# Altium footprint library IC_QFP.PcbLib: 10 footprints (part 1 of 5)
Each footprint in its own frame and in the unit in brackets; x right, y up, seen from the top. Pads: shape width x height; smd on the part's side, far side on the other; paste and mask are expansions set on the pad; w line width, h text height; cw(c..) or ccw(c..) is an arc to the next point about the centre after c.
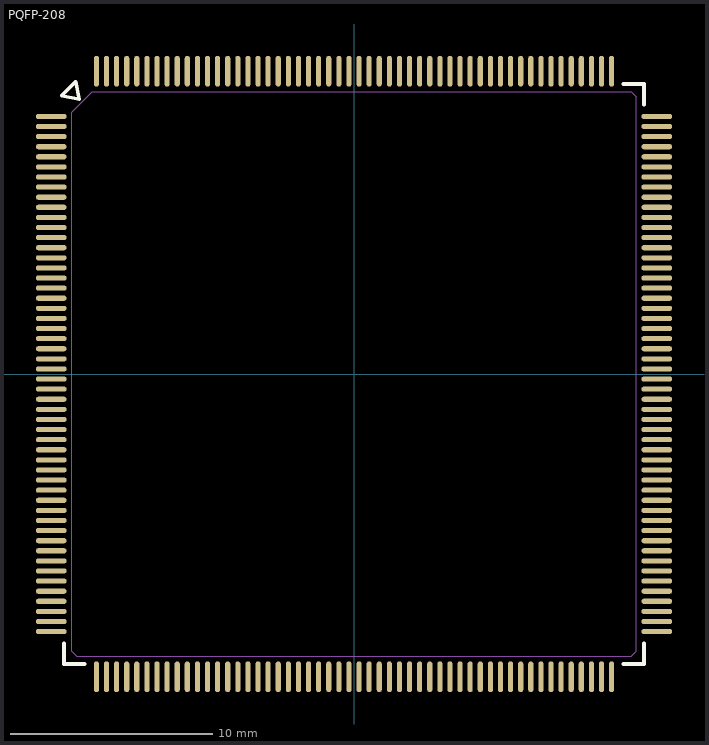
[diagram p0: the footprint, top view; thin cyan lines are the x and y axes]

## PQFP-208 [mil]
pads (208):
  oval 60x10 smd: 1(-590,501.97) 2(-590,482.28) 3(-590,462.6) 4(-590,442.91) 5(-590,423.23) 6(-590,403.54) 7(-590,383.86) 8(-590,364.17) 9(-590,344.49) 10(-590,324.8) 11(-590,305.12) 12(-590,285.43) 13(-590,265.75) 14(-590,246.06) 15(-590,226.38) 16(-590,206.69) 17(-590,187.01) 18(-590,167.32) 19(-590,147.64) 20(-590,127.95) 21(-590,108.27) 22(-590,88.58) 23(-590,68.9) 24(-590,49.21) 25(-590,29.53) 26(-590,9.84) 27(-590,-9.84) 28(-590,-29.53) 29(-590,-49.21) 30(-590,-68.9) 31(-590,-88.58) 32(-590,-108.27) 33(-590,-127.95) 34(-590,-147.64) 35(-590,-167.32) 36(-590,-187.01) 37(-590,-206.69) 38(-590,-226.38) 39(-590,-246.06) 40(-590,-265.75) 41(-590,-285.43) 42(-590,-305.12) 43(-590,-324.8) 44(-590,-344.49) 45(-590,-364.17) 46(-590,-383.86) 47(-590,-403.54) 48(-590,-423.23) 49(-590,-442.91) 50(-590,-462.6) 51(-590,-482.28) 52(-590,-501.97) 105(590,-501.97) 106(590,-482.28) 107(590,-462.6) 108(590,-442.91) 109(590,-423.23) 110(590,-403.54) 111(590,-383.86) 112(590,-364.17) 113(590,-344.49) 114(590,-324.8) 115(590,-305.12) 116(590,-285.43) 117(590,-265.75) 118(590,-246.06) 119(590,-226.38) 120(590,-206.69) 121(590,-187.01) 122(590,-167.32) 123(590,-147.64) 124(590,-127.95) 125(590,-108.27) 126(590,-88.58) 127(590,-68.9) 128(590,-49.21) 129(590,-29.53) 130(590,-9.84) 131(590,9.84) 132(590,29.53) 133(590,49.21) 134(590,68.9) 135(590,88.58) 136(590,108.27) 137(590,127.95) 138(590,147.64) 139(590,167.32) 140(590,187.01) 141(590,206.69) 142(590,226.38) 143(590,246.06) 144(590,265.75) 145(590,285.43) 146(590,305.12) 147(590,324.8) 148(590,344.49) 149(590,364.17) 150(590,383.86) 151(590,403.54) 152(590,423.23) 153(590,442.91) 154(590,462.6) 155(590,482.28) 156(590,501.97)
  oval 10x60 smd: 53(-501.97,-590) 54(-482.28,-590) 55(-462.6,-590) 56(-442.91,-590) 57(-423.23,-590) 58(-403.54,-590) 59(-383.86,-590) 60(-364.17,-590) 61(-344.49,-590) 62(-324.8,-590) 63(-305.12,-590) 64(-285.43,-590) 65(-265.75,-590) 66(-246.06,-590) 67(-226.38,-590) 68(-206.69,-590) 69(-187.01,-590) 70(-167.32,-590) 71(-147.64,-590) 72(-127.95,-590) 73(-108.27,-590) 74(-88.58,-590) 75(-68.9,-590) 76(-49.21,-590) 77(-29.53,-590) 78(-9.84,-590) 79(9.84,-590) 80(29.53,-590) 81(49.21,-590) 82(68.9,-590) 83(88.58,-590) 84(108.27,-590) 85(127.95,-590) 86(147.64,-590) 87(167.32,-590) 88(187.01,-590) 89(206.69,-590) 90(226.38,-590) 91(246.06,-590) 92(265.75,-590) 93(285.43,-590) 94(305.12,-590) 95(324.8,-590) 96(344.49,-590) 97(364.17,-590) 98(383.86,-590) 99(403.54,-590) 100(423.23,-590) 101(442.91,-590) 102(462.6,-590) 103(482.28,-590) 104(501.97,-590) 157(501.97,590) 158(482.28,590) 159(462.6,590) 160(442.91,590) 161(423.23,590) 162(403.54,590) 163(383.86,590) 164(364.17,590) 165(344.49,590) 166(324.8,590) 167(305.12,590) 168(285.43,590) 169(265.75,590) 170(246.06,590) 171(226.38,590) 172(206.69,590) 173(187.01,590) 174(167.32,590) 175(147.64,590) 176(127.95,590) 177(108.27,590) 178(88.58,590) 179(68.9,590) 180(49.21,590) 181(29.53,590) 182(9.84,590) 183(-9.84,590) 184(-29.53,590) 185(-49.21,590) 186(-68.9,590) 187(-88.58,590) 188(-108.27,590) 189(-127.95,590) 190(-147.64,590) 191(-167.32,590) 192(-187.01,590) 193(-206.69,590) 194(-226.38,590) 195(-246.06,590) 196(-265.75,590) 197(-285.43,590) 198(-305.12,590) 199(-324.8,590) 200(-344.49,590) 201(-364.17,590) 202(-383.86,590) 203(-403.54,590) 204(-423.23,590) 205(-442.91,590) 206(-462.6,590) 207(-482.28,590) 208(-501.97,590)
Top Overlay:
  lines w7: -565,-525 -565,-565 -525,-565 ; 525,-565 565,-565 565,-525 ; 525,565 565,565 565,525 ; -569.8,541.96 -541.96,569.8 -535,535 -569.8,541.96
Mechanical 16:
  lines w1: -550,-540 -540,-550 540,-550 550,-540 550,540 540,550 -510,550 -550,510 -550,-540
3D body: height 161.42, standoff 0, extent -550,-550 550,550
3D body: height 75, standoff 68, extent -506.97,545 -496.97,570
3D body: height 7, standoff 0, extent -506.97,580 -496.97,595
3D body: height 75, standoff 0, extent -506.97,570 -496.97,580
3D body: height 75, standoff 68, extent -487.28,545 -477.28,570
3D body: height 7, standoff 0, extent -487.28,580 -477.28,595
3D body: height 75, standoff 0, extent -487.28,570 -477.28,580
3D body: height 75, standoff 68, extent -467.6,545 -457.6,570
3D body: height 7, standoff 0, extent -467.6,580 -457.6,595
3D body: height 75, standoff 0, extent -467.6,570 -457.6,580
3D body: height 75, standoff 68, extent -447.91,545 -437.91,570
3D body: height 7, standoff 0, extent -447.91,580 -437.91,595
3D body: height 75, standoff 0, extent -447.91,570 -437.91,580
3D body: height 75, standoff 68, extent -428.23,545 -418.23,570
3D body: height 7, standoff 0, extent -428.23,580 -418.23,595
3D body: height 75, standoff 0, extent -428.23,570 -418.23,580
3D body: height 75, standoff 68, extent -408.54,545 -398.54,570
3D body: height 7, standoff 0, extent -408.54,580 -398.54,595
3D body: height 75, standoff 0, extent -408.54,570 -398.54,580
3D body: height 75, standoff 68, extent -388.86,545 -378.86,570
3D body: height 7, standoff 0, extent -388.86,580 -378.86,595
3D body: height 75, standoff 0, extent -388.86,570 -378.86,580
3D body: height 75, standoff 68, extent -369.17,545 -359.17,570
3D body: height 7, standoff 0, extent -369.17,580 -359.17,595
3D body: height 75, standoff 0, extent -369.17,570 -359.17,580
3D body: height 75, standoff 68, extent -349.49,545 -339.49,570
3D body: height 7, standoff 0, extent -349.49,580 -339.49,595
3D body: height 75, standoff 0, extent -349.49,570 -339.49,580
3D body: height 75, standoff 68, extent -329.8,545 -319.8,570
3D body: height 7, standoff 0, extent -329.8,580 -319.8,595
3D body: height 75, standoff 0, extent -329.8,570 -319.8,580
3D body: height 75, standoff 68, extent -310.12,545 -300.12,570
3D body: height 7, standoff 0, extent -310.12,580 -300.12,595
3D body: height 75, standoff 0, extent -310.12,570 -300.12,580
3D body: height 75, standoff 68, extent -290.43,545 -280.43,570
3D body: height 7, standoff 0, extent -290.43,580 -280.43,595
3D body: height 75, standoff 0, extent -290.43,570 -280.43,580
3D body: height 75, standoff 68, extent -270.75,545 -260.75,570
3D body: height 7, standoff 0, extent -270.75,580 -260.75,595
3D body: height 75, standoff 0, extent -270.75,570 -260.75,580
3D body: height 75, standoff 68, extent -251.06,545 -241.06,570
3D body: height 7, standoff 0, extent -251.06,580 -241.06,595
3D body: height 75, standoff 0, extent -251.06,570 -241.06,580
3D body: height 75, standoff 0, extent 24.53,570 34.53,580
3D body: height 7, standoff 0, extent 24.53,580 34.53,595
3D body: height 75, standoff 68, extent 24.53,545 34.53,570
3D body: height 75, standoff 0, extent 4.84,570 14.84,580
3D body: height 7, standoff 0, extent 4.84,580 14.84,595
3D body: height 75, standoff 68, extent 4.84,545 14.84,570
3D body: height 75, standoff 0, extent -14.84,570 -4.84,580
3D body: height 7, standoff 0, extent -14.84,580 -4.84,595
3D body: height 75, standoff 68, extent -14.84,545 -4.84,570
3D body: height 75, standoff 0, extent -34.53,570 -24.53,580
3D body: height 7, standoff 0, extent -34.53,580 -24.53,595
3D body: height 75, standoff 68, extent -34.53,545 -24.53,570
3D body: height 75, standoff 0, extent -54.21,570 -44.21,580
3D body: height 7, standoff 0, extent -54.21,580 -44.21,595
3D body: height 75, standoff 68, extent -54.21,545 -44.21,570
3D body: height 75, standoff 0, extent -73.9,570 -63.9,580
3D body: height 7, standoff 0, extent -73.9,580 -63.9,595
3D body: height 75, standoff 68, extent -73.9,545 -63.9,570
3D body: height 75, standoff 0, extent -93.58,570 -83.58,580
3D body: height 7, standoff 0, extent -93.58,580 -83.58,595
3D body: height 75, standoff 68, extent -93.58,545 -83.58,570
3D body: height 75, standoff 0, extent -113.27,570 -103.27,580
3D body: height 7, standoff 0, extent -113.27,580 -103.27,595
3D body: height 75, standoff 68, extent -113.27,545 -103.27,570
3D body: height 75, standoff 0, extent -132.95,570 -122.95,580
3D body: height 7, standoff 0, extent -132.95,580 -122.95,595
3D body: height 75, standoff 68, extent -132.95,545 -122.95,570
3D body: height 75, standoff 0, extent -152.64,570 -142.64,580
3D body: height 7, standoff 0, extent -152.64,580 -142.64,595
3D body: height 75, standoff 68, extent -152.64,545 -142.64,570
3D body: height 75, standoff 0, extent -172.32,570 -162.32,580
3D body: height 7, standoff 0, extent -172.32,580 -162.32,595
3D body: height 75, standoff 68, extent -172.32,545 -162.32,570
3D body: height 75, standoff 0, extent -192.01,570 -182.01,580
3D body: height 7, standoff 0, extent -192.01,580 -182.01,595
3D body: height 75, standoff 68, extent -192.01,545 -182.01,570
3D body: height 75, standoff 0, extent -211.69,570 -201.69,580
3D body: height 7, standoff 0, extent -211.69,580 -201.69,595
3D body: height 75, standoff 68, extent -211.69,545 -201.69,570
3D body: height 75, standoff 0, extent -231.38,570 -221.38,580
3D body: height 7, standoff 0, extent -231.38,580 -221.38,595
3D body: height 75, standoff 68, extent -231.38,545 -221.38,570
3D body: height 75, standoff 0, extent 300.12,570 310.12,580
3D body: height 7, standoff 0, extent 300.12,580 310.12,595
3D body: height 75, standoff 68, extent 300.12,545 310.12,570
3D body: height 75, standoff 0, extent 280.43,570 290.43,580
3D body: height 7, standoff 0, extent 280.43,580 290.43,595
3D body: height 75, standoff 68, extent 280.43,545 290.43,570
3D body: height 75, standoff 0, extent 260.75,570 270.75,580
3D body: height 7, standoff 0, extent 260.75,580 270.75,595
3D body: height 75, standoff 68, extent 260.75,545 270.75,570
3D body: height 75, standoff 0, extent 241.06,570 251.06,580
3D body: height 7, standoff 0, extent 241.06,580 251.06,595
3D body: height 75, standoff 68, extent 241.06,545 251.06,570
3D body: height 75, standoff 0, extent 221.38,570 231.38,580
3D body: height 7, standoff 0, extent 221.38,580 231.38,595
3D body: height 75, standoff 68, extent 221.38,545 231.38,570
3D body: height 75, standoff 0, extent 201.69,570 211.69,580
3D body: height 7, standoff 0, extent 201.69,580 211.69,595
3D body: height 75, standoff 68, extent 201.69,545 211.69,570
3D body: height 75, standoff 0, extent 182.01,570 192.01,580
3D body: height 7, standoff 0, extent 182.01,580 192.01,595
3D body: height 75, standoff 68, extent 182.01,545 192.01,570
3D body: height 75, standoff 0, extent 162.32,570 172.32,580
3D body: height 7, standoff 0, extent 162.32,580 172.32,595
3D body: height 75, standoff 68, extent 162.32,545 172.32,570
3D body: height 75, standoff 0, extent 142.64,570 152.64,580
3D body: height 7, standoff 0, extent 142.64,580 152.64,595
3D body: height 75, standoff 68, extent 142.64,545 152.64,570
3D body: height 75, standoff 0, extent 122.95,570 132.95,580
3D body: height 7, standoff 0, extent 122.95,580 132.95,595
3D body: height 75, standoff 68, extent 122.95,545 132.95,570
3D body: height 75, standoff 0, extent 103.27,570 113.27,580
3D body: height 7, standoff 0, extent 103.27,580 113.27,595
3D body: height 75, standoff 68, extent 103.27,545 113.27,570
3D body: height 75, standoff 0, extent 83.58,570 93.58,580
3D body: height 7, standoff 0, extent 83.58,580 93.58,595
3D body: height 75, standoff 68, extent 83.58,545 93.58,570
3D body: height 75, standoff 0, extent 63.9,570 73.9,580
3D body: height 7, standoff 0, extent 63.9,580 73.9,595
3D body: height 75, standoff 68, extent 63.9,545 73.9,570
3D body: height 75, standoff 0, extent 44.21,570 54.21,580
3D body: height 7, standoff 0, extent 44.21,580 54.21,595
3D body: height 75, standoff 68, extent 44.21,545 54.21,570
3D body: height 75, standoff 0, extent 437.91,570 447.91,580
3D body: height 7, standoff 0, extent 437.91,580 447.91,595
3D body: height 75, standoff 68, extent 437.91,545 447.91,570
3D body: height 75, standoff 0, extent 418.23,570 428.23,580
3D body: height 7, standoff 0, extent 418.23,580 428.23,595
3D body: height 75, standoff 68, extent 418.23,545 428.23,570
3D body: height 75, standoff 0, extent 398.54,570 408.54,580
3D body: height 7, standoff 0, extent 398.54,580 408.54,595
3D body: height 75, standoff 68, extent 398.54,545 408.54,570
3D body: height 75, standoff 0, extent 378.86,570 388.86,580
3D body: height 7, standoff 0, extent 378.86,580 388.86,595
3D body: height 75, standoff 68, extent 378.86,545 388.86,570
3D body: height 75, standoff 0, extent 359.17,570 369.17,580
3D body: height 7, standoff 0, extent 359.17,580 369.17,595
3D body: height 75, standoff 68, extent 359.17,545 369.17,570
3D body: height 75, standoff 0, extent 339.49,570 349.49,580
3D body: height 7, standoff 0, extent 339.49,580 349.49,595
3D body: height 75, standoff 68, extent 339.49,545 349.49,570
3D body: height 75, standoff 0, extent 319.8,570 329.8,580
3D body: height 7, standoff 0, extent 319.8,580 329.8,595
3D body: height 75, standoff 68, extent 319.8,545 329.8,570
3D body: height 75, standoff 68, extent 457.6,545 467.6,570
3D body: height 7, standoff 0, extent 457.6,580 467.6,595
3D body: height 75, standoff 0, extent 457.6,570 467.6,580
3D body: height 75, standoff 68, extent 477.28,545 487.28,570
3D body: height 7, standoff 0, extent 477.28,580 487.28,595
3D body: height 75, standoff 0, extent 477.28,570 487.28,580
3D body: height 75, standoff 68, extent 496.97,545 506.97,570
3D body: height 7, standoff 0, extent 496.97,580 506.97,595
3D body: height 75, standoff 0, extent 496.97,570 506.97,580
3D body: height 75, standoff 0, extent -580,496.97 -570,506.97
3D body: height 7, standoff 0, extent -595,496.97 -580,506.97
3D body: height 75, standoff 68, extent -570,496.97 -545,506.97
3D body: height 75, standoff 0, extent -580,477.28 -570,487.28
3D body: height 7, standoff 0, extent -595,477.28 -580,487.28
3D body: height 75, standoff 68, extent -570,477.28 -545,487.28
3D body: height 75, standoff 0, extent -580,457.6 -570,467.6
3D body: height 7, standoff 0, extent -595,457.6 -580,467.6
3D body: height 75, standoff 68, extent -570,457.6 -545,467.6
3D body: height 75, standoff 68, extent -570,319.8 -545,329.8
3D body: height 7, standoff 0, extent -595,319.8 -580,329.8
3D body: height 75, standoff 0, extent -580,319.8 -570,329.8
3D body: height 75, standoff 68, extent -570,339.49 -545,349.49
3D body: height 7, standoff 0, extent -595,339.49 -580,349.49
3D body: height 75, standoff 0, extent -580,339.49 -570,349.49
3D body: height 75, standoff 68, extent -570,359.17 -545,369.17
3D body: height 7, standoff 0, extent -595,359.17 -580,369.17
3D body: height 75, standoff 0, extent -580,359.17 -570,369.17
3D body: height 75, standoff 68, extent -570,378.86 -545,388.86
3D body: height 7, standoff 0, extent -595,378.86 -580,388.86
3D body: height 75, standoff 0, extent -580,378.86 -570,388.86
3D body: height 75, standoff 68, extent -570,398.54 -545,408.54
3D body: height 7, standoff 0, extent -595,398.54 -580,408.54
3D body: height 75, standoff 0, extent -580,398.54 -570,408.54
3D body: height 75, standoff 68, extent -570,418.23 -545,428.23
3D body: height 7, standoff 0, extent -595,418.23 -580,428.23
3D body: height 75, standoff 0, extent -580,418.23 -570,428.23
3D body: height 75, standoff 68, extent -570,437.91 -545,447.91
3D body: height 7, standoff 0, extent -595,437.91 -580,447.91
3D body: height 75, standoff 0, extent -580,437.91 -570,447.91
3D body: height 75, standoff 68, extent -570,44.21 -545,54.21
3D body: height 7, standoff 0, extent -595,44.21 -580,54.21
3D body: height 75, standoff 0, extent -580,44.21 -570,54.21
3D body: height 75, standoff 68, extent -570,63.9 -545,73.9
3D body: height 7, standoff 0, extent -595,63.9 -580,73.9
3D body: height 75, standoff 0, extent -580,63.9 -570,73.9
3D body: height 75, standoff 68, extent -570,83.58 -545,93.58
3D body: height 7, standoff 0, extent -595,83.58 -580,93.58
3D body: height 75, standoff 0, extent -580,83.58 -570,93.58
3D body: height 75, standoff 68, extent -570,103.27 -545,113.27
3D body: height 7, standoff 0, extent -595,103.27 -580,113.27
3D body: height 75, standoff 0, extent -580,103.27 -570,113.27
3D body: height 75, standoff 68, extent -570,122.95 -545,132.95
3D body: height 7, standoff 0, extent -595,122.95 -580,132.95
3D body: height 75, standoff 0, extent -580,122.95 -570,132.95
3D body: height 75, standoff 68, extent -570,142.64 -545,152.64
3D body: height 7, standoff 0, extent -595,142.64 -580,152.64
3D body: height 75, standoff 0, extent -580,142.64 -570,152.64
3D body: height 75, standoff 68, extent -570,162.32 -545,172.32
3D body: height 7, standoff 0, extent -595,162.32 -580,172.32
3D body: height 75, standoff 0, extent -580,162.32 -570,172.32
3D body: height 75, standoff 68, extent -570,182.01 -545,192.01
3D body: height 7, standoff 0, extent -595,182.01 -580,192.01
3D body: height 75, standoff 0, extent -580,182.01 -570,192.01
3D body: height 75, standoff 68, extent -570,201.69 -545,211.69
3D body: height 7, standoff 0, extent -595,201.69 -580,211.69
3D body: height 75, standoff 0, extent -580,201.69 -570,211.69
3D body: height 75, standoff 68, extent -570,221.38 -545,231.38
3D body: height 7, standoff 0, extent -595,221.38 -580,231.38
3D body: height 75, standoff 0, extent -580,221.38 -570,231.38
3D body: height 75, standoff 68, extent -570,241.06 -545,251.06
3D body: height 7, standoff 0, extent -595,241.06 -580,251.06
3D body: height 75, standoff 0, extent -580,241.06 -570,251.06
3D body: height 75, standoff 68, extent -570,260.75 -545,270.75
3D body: height 7, standoff 0, extent -595,260.75 -580,270.75
3D body: height 75, standoff 0, extent -580,260.75 -570,270.75
3D body: height 75, standoff 68, extent -570,280.43 -545,290.43
3D body: height 7, standoff 0, extent -595,280.43 -580,290.43
3D body: height 75, standoff 0, extent -580,280.43 -570,290.43
3D body: height 75, standoff 68, extent -570,300.12 -545,310.12
3D body: height 7, standoff 0, extent -595,300.12 -580,310.12
3D body: height 75, standoff 0, extent -580,300.12 -570,310.12
3D body: height 75, standoff 68, extent -570,-231.38 -545,-221.38
3D body: height 7, standoff 0, extent -595,-231.38 -580,-221.38
3D body: height 75, standoff 0, extent -580,-231.38 -570,-221.38
3D body: height 75, standoff 68, extent -570,-211.69 -545,-201.69
3D body: height 7, standoff 0, extent -595,-211.69 -580,-201.69
3D body: height 75, standoff 0, extent -580,-211.69 -570,-201.69
3D body: height 75, standoff 68, extent -570,-192.01 -545,-182.01
3D body: height 7, standoff 0, extent -595,-192.01 -580,-182.01
3D body: height 75, standoff 0, extent -580,-192.01 -570,-182.01
3D body: height 75, standoff 68, extent -570,-172.32 -545,-162.32
3D body: height 7, standoff 0, extent -595,-172.32 -580,-162.32
3D body: height 75, standoff 0, extent -580,-172.32 -570,-162.32
3D body: height 75, standoff 68, extent -570,-152.64 -545,-142.64
3D body: height 7, standoff 0, extent -595,-152.64 -580,-142.64
3D body: height 75, standoff 0, extent -580,-152.64 -570,-142.64
3D body: height 75, standoff 68, extent -570,-132.95 -545,-122.95
3D body: height 7, standoff 0, extent -595,-132.95 -580,-122.95
3D body: height 75, standoff 0, extent -580,-132.95 -570,-122.95
3D body: height 75, standoff 68, extent -570,-113.27 -545,-103.27
3D body: height 7, standoff 0, extent -595,-113.27 -580,-103.27
3D body: height 75, standoff 0, extent -580,-113.27 -570,-103.27
3D body: height 75, standoff 68, extent -570,-93.58 -545,-83.58
3D body: height 7, standoff 0, extent -595,-93.58 -580,-83.58
3D body: height 75, standoff 0, extent -580,-93.58 -570,-83.58
3D body: height 75, standoff 68, extent -570,-73.9 -545,-63.9
3D body: height 7, standoff 0, extent -595,-73.9 -580,-63.9
3D body: height 75, standoff 0, extent -580,-73.9 -570,-63.9
3D body: height 75, standoff 68, extent -570,-54.21 -545,-44.21
3D body: height 7, standoff 0, extent -595,-54.21 -580,-44.21
3D body: height 75, standoff 0, extent -580,-54.21 -570,-44.21
3D body: height 75, standoff 68, extent -570,-34.53 -545,-24.53
3D body: height 7, standoff 0, extent -595,-34.53 -580,-24.53
3D body: height 75, standoff 0, extent -580,-34.53 -570,-24.53
3D body: height 75, standoff 68, extent -570,-14.84 -545,-4.84
3D body: height 7, standoff 0, extent -595,-14.84 -580,-4.84
3D body: height 75, standoff 0, extent -580,-14.84 -570,-4.84
3D body: height 75, standoff 68, extent -570,4.84 -545,14.84
3D body: height 7, standoff 0, extent -595,4.84 -580,14.84
3D body: height 75, standoff 0, extent -580,4.84 -570,14.84
3D body: height 75, standoff 68, extent -570,24.53 -545,34.53
3D body: height 7, standoff 0, extent -595,24.53 -580,34.53
3D body: height 75, standoff 0, extent -580,24.53 -570,34.53
3D body: height 75, standoff 0, extent -580,-251.06 -570,-241.06
3D body: height 7, standoff 0, extent -595,-251.06 -580,-241.06
3D body: height 75, standoff 68, extent -570,-251.06 -545,-241.06
3D body: height 75, standoff 0, extent -580,-270.75 -570,-260.75
3D body: height 7, standoff 0, extent -595,-270.75 -580,-260.75
3D body: height 75, standoff 68, extent -570,-270.75 -545,-260.75
3D body: height 75, standoff 0, extent -580,-290.43 -570,-280.43
3D body: height 7, standoff 0, extent -595,-290.43 -580,-280.43
3D body: height 75, standoff 68, extent -570,-290.43 -545,-280.43
3D body: height 75, standoff 0, extent -580,-310.12 -570,-300.12
3D body: height 7, standoff 0, extent -595,-310.12 -580,-300.12
3D body: height 75, standoff 68, extent -570,-310.12 -545,-300.12
3D body: height 75, standoff 0, extent -580,-329.8 -570,-319.8
3D body: height 7, standoff 0, extent -595,-329.8 -580,-319.8
3D body: height 75, standoff 68, extent -570,-329.8 -545,-319.8
3D body: height 75, standoff 0, extent -580,-349.49 -570,-339.49
3D body: height 7, standoff 0, extent -595,-349.49 -580,-339.49
3D body: height 75, standoff 68, extent -570,-349.49 -545,-339.49
3D body: height 75, standoff 0, extent -580,-369.17 -570,-359.17
3D body: height 7, standoff 0, extent -595,-369.17 -580,-359.17
3D body: height 75, standoff 68, extent -570,-369.17 -545,-359.17
3D body: height 75, standoff 0, extent -580,-388.86 -570,-378.86
3D body: height 7, standoff 0, extent -595,-388.86 -580,-378.86
3D body: height 75, standoff 68, extent -570,-388.86 -545,-378.86
3D body: height 75, standoff 0, extent -580,-408.54 -570,-398.54
3D body: height 7, standoff 0, extent -595,-408.54 -580,-398.54
3D body: height 75, standoff 68, extent -570,-408.54 -545,-398.54
3D body: height 75, standoff 0, extent -580,-428.23 -570,-418.23
3D body: height 7, standoff 0, extent -595,-428.23 -580,-418.23
3D body: height 75, standoff 68, extent -570,-428.23 -545,-418.23
3D body: height 75, standoff 0, extent -580,-447.91 -570,-437.91
3D body: height 7, standoff 0, extent -595,-447.91 -580,-437.91
3D body: height 75, standoff 68, extent -570,-447.91 -545,-437.91
3D body: height 75, standoff 0, extent -580,-467.6 -570,-457.6
3D body: height 7, standoff 0, extent -595,-467.6 -580,-457.6
3D body: height 75, standoff 68, extent -570,-467.6 -545,-457.6
3D body: height 75, standoff 0, extent -580,-487.28 -570,-477.28
3D body: height 7, standoff 0, extent -595,-487.28 -580,-477.28
3D body: height 75, standoff 68, extent -570,-487.28 -545,-477.28
3D body: height 75, standoff 0, extent -580,-506.97 -570,-496.97
3D body: height 7, standoff 0, extent -595,-506.97 -580,-496.97
3D body: height 75, standoff 68, extent -570,-506.97 -545,-496.97
3D body: height 75, standoff 0, extent -506.97,-580 -496.97,-570
3D body: height 7, standoff 0, extent -506.97,-595 -496.97,-580
3D body: height 75, standoff 68, extent -506.97,-570 -496.97,-545
3D body: height 75, standoff 0, extent -487.28,-580 -477.28,-570
3D body: height 7, standoff 0, extent -487.28,-595 -477.28,-580
3D body: height 75, standoff 68, extent -487.28,-570 -477.28,-545
3D body: height 75, standoff 0, extent -467.6,-580 -457.6,-570
3D body: height 7, standoff 0, extent -467.6,-595 -457.6,-580
3D body: height 75, standoff 68, extent -467.6,-570 -457.6,-545
3D body: height 75, standoff 68, extent -329.8,-570 -319.8,-545
3D body: height 7, standoff 0, extent -329.8,-595 -319.8,-580
3D body: height 75, standoff 0, extent -329.8,-580 -319.8,-570
3D body: height 75, standoff 68, extent -349.49,-570 -339.49,-545
3D body: height 7, standoff 0, extent -349.49,-595 -339.49,-580
3D body: height 75, standoff 0, extent -349.49,-580 -339.49,-570
3D body: height 75, standoff 68, extent -369.17,-570 -359.17,-545
3D body: height 7, standoff 0, extent -369.17,-595 -359.17,-580
3D body: height 75, standoff 0, extent -369.17,-580 -359.17,-570
3D body: height 75, standoff 68, extent -388.86,-570 -378.86,-545
3D body: height 7, standoff 0, extent -388.86,-595 -378.86,-580
3D body: height 75, standoff 0, extent -388.86,-580 -378.86,-570
3D body: height 75, standoff 68, extent -408.54,-570 -398.54,-545
3D body: height 7, standoff 0, extent -408.54,-595 -398.54,-580
3D body: height 75, standoff 0, extent -408.54,-580 -398.54,-570
3D body: height 75, standoff 68, extent -428.23,-570 -418.23,-545
3D body: height 7, standoff 0, extent -428.23,-595 -418.23,-580
3D body: height 75, standoff 0, extent -428.23,-580 -418.23,-570
3D body: height 75, standoff 68, extent -447.91,-570 -437.91,-545
3D body: height 7, standoff 0, extent -447.91,-595 -437.91,-580
3D body: height 75, standoff 0, extent -447.91,-580 -437.91,-570
3D body: height 75, standoff 68, extent -54.21,-570 -44.21,-545
3D body: height 7, standoff 0, extent -54.21,-595 -44.21,-580
3D body: height 75, standoff 0, extent -54.21,-580 -44.21,-570
3D body: height 75, standoff 68, extent -73.9,-570 -63.9,-545
3D body: height 7, standoff 0, extent -73.9,-595 -63.9,-580
3D body: height 75, standoff 0, extent -73.9,-580 -63.9,-570
3D body: height 75, standoff 68, extent -93.58,-570 -83.58,-545
3D body: height 7, standoff 0, extent -93.58,-595 -83.58,-580
3D body: height 75, standoff 0, extent -93.58,-580 -83.58,-570
3D body: height 75, standoff 68, extent -113.27,-570 -103.27,-545
3D body: height 7, standoff 0, extent -113.27,-595 -103.27,-580
3D body: height 75, standoff 0, extent -113.27,-580 -103.27,-570
3D body: height 75, standoff 68, extent -132.95,-570 -122.95,-545
3D body: height 7, standoff 0, extent -132.95,-595 -122.95,-580
3D body: height 75, standoff 0, extent -132.95,-580 -122.95,-570
3D body: height 75, standoff 68, extent -152.64,-570 -142.64,-545
3D body: height 7, standoff 0, extent -152.64,-595 -142.64,-580
3D body: height 75, standoff 0, extent -152.64,-580 -142.64,-570
3D body: height 75, standoff 68, extent -172.32,-570 -162.32,-545
3D body: height 7, standoff 0, extent -172.32,-595 -162.32,-580
3D body: height 75, standoff 0, extent -172.32,-580 -162.32,-570
3D body: height 75, standoff 68, extent -192.01,-570 -182.01,-545
3D body: height 7, standoff 0, extent -192.01,-595 -182.01,-580
3D body: height 75, standoff 0, extent -192.01,-580 -182.01,-570
3D body: height 75, standoff 68, extent -211.69,-570 -201.69,-545
3D body: height 7, standoff 0, extent -211.69,-595 -201.69,-580
3D body: height 75, standoff 0, extent -211.69,-580 -201.69,-570
3D body: height 75, standoff 68, extent -231.38,-570 -221.38,-545
3D body: height 7, standoff 0, extent -231.38,-595 -221.38,-580
3D body: height 75, standoff 0, extent -231.38,-580 -221.38,-570
3D body: height 75, standoff 68, extent -251.06,-570 -241.06,-545
3D body: height 7, standoff 0, extent -251.06,-595 -241.06,-580
3D body: height 75, standoff 0, extent -251.06,-580 -241.06,-570
3D body: height 75, standoff 68, extent -270.75,-570 -260.75,-545
3D body: height 7, standoff 0, extent -270.75,-595 -260.75,-580
3D body: height 75, standoff 0, extent -270.75,-580 -260.75,-570
3D body: height 75, standoff 68, extent -290.43,-570 -280.43,-545
3D body: height 7, standoff 0, extent -290.43,-595 -280.43,-580
3D body: height 75, standoff 0, extent -290.43,-580 -280.43,-570
3D body: height 75, standoff 68, extent -310.12,-570 -300.12,-545
3D body: height 7, standoff 0, extent -310.12,-595 -300.12,-580
3D body: height 75, standoff 0, extent -310.12,-580 -300.12,-570
3D body: height 75, standoff 68, extent 221.38,-570 231.38,-545
3D body: height 7, standoff 0, extent 221.38,-595 231.38,-580
3D body: height 75, standoff 0, extent 221.38,-580 231.38,-570
3D body: height 75, standoff 68, extent 201.69,-570 211.69,-545
3D body: height 7, standoff 0, extent 201.69,-595 211.69,-580
3D body: height 75, standoff 0, extent 201.69,-580 211.69,-570
3D body: height 75, standoff 68, extent 182.01,-570 192.01,-545
3D body: height 7, standoff 0, extent 182.01,-595 192.01,-580
3D body: height 75, standoff 0, extent 182.01,-580 192.01,-570
3D body: height 75, standoff 68, extent 162.32,-570 172.32,-545
3D body: height 7, standoff 0, extent 162.32,-595 172.32,-580
3D body: height 75, standoff 0, extent 162.32,-580 172.32,-570
3D body: height 75, standoff 68, extent 142.64,-570 152.64,-545
3D body: height 7, standoff 0, extent 142.64,-595 152.64,-580
3D body: height 75, standoff 0, extent 142.64,-580 152.64,-570
3D body: height 75, standoff 68, extent 122.95,-570 132.95,-545
3D body: height 7, standoff 0, extent 122.95,-595 132.95,-580
3D body: height 75, standoff 0, extent 122.95,-580 132.95,-570
3D body: height 75, standoff 68, extent 103.27,-570 113.27,-545
3D body: height 7, standoff 0, extent 103.27,-595 113.27,-580
3D body: height 75, standoff 0, extent 103.27,-580 113.27,-570
3D body: height 75, standoff 68, extent 83.58,-570 93.58,-545
3D body: height 7, standoff 0, extent 83.58,-595 93.58,-580
3D body: height 75, standoff 0, extent 83.58,-580 93.58,-570
3D body: height 75, standoff 68, extent 63.9,-570 73.9,-545
3D body: height 7, standoff 0, extent 63.9,-595 73.9,-580
3D body: height 75, standoff 0, extent 63.9,-580 73.9,-570
3D body: height 75, standoff 68, extent 44.21,-570 54.21,-545
3D body: height 7, standoff 0, extent 44.21,-595 54.21,-580
3D body: height 75, standoff 0, extent 44.21,-580 54.21,-570
3D body: height 75, standoff 68, extent 24.53,-570 34.53,-545
3D body: height 7, standoff 0, extent 24.53,-595 34.53,-580
3D body: height 75, standoff 0, extent 24.53,-580 34.53,-570
3D body: height 75, standoff 68, extent 4.84,-570 14.84,-545
3D body: height 7, standoff 0, extent 4.84,-595 14.84,-580
3D body: height 75, standoff 0, extent 4.84,-580 14.84,-570
3D body: height 75, standoff 68, extent -14.84,-570 -4.84,-545
3D body: height 7, standoff 0, extent -14.84,-595 -4.84,-580
3D body: height 75, standoff 0, extent -14.84,-580 -4.84,-570
3D body: height 75, standoff 68, extent -34.53,-570 -24.53,-545
3D body: height 7, standoff 0, extent -34.53,-595 -24.53,-580
3D body: height 75, standoff 0, extent -34.53,-580 -24.53,-570
3D body: height 75, standoff 0, extent 241.06,-580 251.06,-570
3D body: height 7, standoff 0, extent 241.06,-595 251.06,-580
3D body: height 75, standoff 68, extent 241.06,-570 251.06,-545
3D body: height 75, standoff 0, extent 260.75,-580 270.75,-570
3D body: height 7, standoff 0, extent 260.75,-595 270.75,-580
3D body: height 75, standoff 68, extent 260.75,-570 270.75,-545
3D body: height 75, standoff 0, extent 280.43,-580 290.43,-570
3D body: height 7, standoff 0, extent 280.43,-595 290.43,-580
3D body: height 75, standoff 68, extent 280.43,-570 290.43,-545
3D body: height 75, standoff 0, extent 300.12,-580 310.12,-570
3D body: height 7, standoff 0, extent 300.12,-595 310.12,-580
3D body: height 75, standoff 68, extent 300.12,-570 310.12,-545
3D body: height 75, standoff 0, extent 319.8,-580 329.8,-570
3D body: height 7, standoff 0, extent 319.8,-595 329.8,-580
3D body: height 75, standoff 68, extent 319.8,-570 329.8,-545
3D body: height 75, standoff 0, extent 339.49,-580 349.49,-570
3D body: height 7, standoff 0, extent 339.49,-595 349.49,-580
3D body: height 75, standoff 68, extent 339.49,-570 349.49,-545
3D body: height 75, standoff 0, extent 359.17,-580 369.17,-570
3D body: height 7, standoff 0, extent 359.17,-595 369.17,-580
3D body: height 75, standoff 68, extent 359.17,-570 369.17,-545
3D body: height 75, standoff 0, extent 378.86,-580 388.86,-570
3D body: height 7, standoff 0, extent 378.86,-595 388.86,-580
3D body: height 75, standoff 68, extent 378.86,-570 388.86,-545
3D body: height 75, standoff 0, extent 398.54,-580 408.54,-570
3D body: height 7, standoff 0, extent 398.54,-595 408.54,-580
3D body: height 75, standoff 68, extent 398.54,-570 408.54,-545
3D body: height 75, standoff 0, extent 418.23,-580 428.23,-570
3D body: height 7, standoff 0, extent 418.23,-595 428.23,-580
3D body: height 75, standoff 68, extent 418.23,-570 428.23,-545
3D body: height 75, standoff 0, extent 437.91,-580 447.91,-570
3D body: height 7, standoff 0, extent 437.91,-595 447.91,-580
3D body: height 75, standoff 68, extent 437.91,-570 447.91,-545
3D body: height 75, standoff 0, extent 457.6,-580 467.6,-570
3D body: height 7, standoff 0, extent 457.6,-595 467.6,-580
3D body: height 75, standoff 68, extent 457.6,-570 467.6,-545
3D body: height 75, standoff 0, extent 477.28,-580 487.28,-570
3D body: height 7, standoff 0, extent 477.28,-595 487.28,-580
3D body: height 75, standoff 68, extent 477.28,-570 487.28,-545
3D body: height 75, standoff 0, extent 496.97,-580 506.97,-570
3D body: height 7, standoff 0, extent 496.97,-595 506.97,-580
3D body: height 75, standoff 68, extent 496.97,-570 506.97,-545
3D body: height 75, standoff 0, extent 570,-506.97 580,-496.97
3D body: height 7, standoff 0, extent 580,-506.97 595,-496.97
3D body: height 75, standoff 68, extent 545,-506.97 570,-496.97
3D body: height 75, standoff 0, extent 570,-487.28 580,-477.28
3D body: height 7, standoff 0, extent 580,-487.28 595,-477.28
3D body: height 75, standoff 68, extent 545,-487.28 570,-477.28
3D body: height 75, standoff 0, extent 570,-467.6 580,-457.6
3D body: height 7, standoff 0, extent 580,-467.6 595,-457.6
3D body: height 75, standoff 68, extent 545,-467.6 570,-457.6
3D body: height 75, standoff 68, extent 545,-329.8 570,-319.8
3D body: height 7, standoff 0, extent 580,-329.8 595,-319.8
3D body: height 75, standoff 0, extent 570,-329.8 580,-319.8
3D body: height 75, standoff 68, extent 545,-349.49 570,-339.49
3D body: height 7, standoff 0, extent 580,-349.49 595,-339.49
3D body: height 75, standoff 0, extent 570,-349.49 580,-339.49
3D body: height 75, standoff 68, extent 545,-369.17 570,-359.17
3D body: height 7, standoff 0, extent 580,-369.17 595,-359.17
3D body: height 75, standoff 0, extent 570,-369.17 580,-359.17
3D body: height 75, standoff 68, extent 545,-388.86 570,-378.86
3D body: height 7, standoff 0, extent 580,-388.86 595,-378.86
3D body: height 75, standoff 0, extent 570,-388.86 580,-378.86
3D body: height 75, standoff 68, extent 545,-408.54 570,-398.54
3D body: height 7, standoff 0, extent 580,-408.54 595,-398.54
3D body: height 75, standoff 0, extent 570,-408.54 580,-398.54
3D body: height 75, standoff 68, extent 545,-428.23 570,-418.23
3D body: height 7, standoff 0, extent 580,-428.23 595,-418.23
3D body: height 75, standoff 0, extent 570,-428.23 580,-418.23
3D body: height 75, standoff 68, extent 545,-447.91 570,-437.91
3D body: height 7, standoff 0, extent 580,-447.91 595,-437.91
3D body: height 75, standoff 0, extent 570,-447.91 580,-437.91
3D body: height 75, standoff 68, extent 545,-54.21 570,-44.21
3D body: height 7, standoff 0, extent 580,-54.21 595,-44.21
3D body: height 75, standoff 0, extent 570,-54.21 580,-44.21
3D body: height 75, standoff 68, extent 545,-73.9 570,-63.9
3D body: height 7, standoff 0, extent 580,-73.9 595,-63.9
3D body: height 75, standoff 0, extent 570,-73.9 580,-63.9
3D body: height 75, standoff 68, extent 545,-93.58 570,-83.58
3D body: height 7, standoff 0, extent 580,-93.58 595,-83.58
3D body: height 75, standoff 0, extent 570,-93.58 580,-83.58
3D body: height 75, standoff 68, extent 545,-113.27 570,-103.27
3D body: height 7, standoff 0, extent 580,-113.27 595,-103.27
3D body: height 75, standoff 0, extent 570,-113.27 580,-103.27
3D body: height 75, standoff 68, extent 545,-132.95 570,-122.95
3D body: height 7, standoff 0, extent 580,-132.95 595,-122.95
3D body: height 75, standoff 0, extent 570,-132.95 580,-122.95
3D body: height 75, standoff 68, extent 545,-152.64 570,-142.64
3D body: height 7, standoff 0, extent 580,-152.64 595,-142.64
3D body: height 75, standoff 0, extent 570,-152.64 580,-142.64
3D body: height 75, standoff 68, extent 545,-172.32 570,-162.32
3D body: height 7, standoff 0, extent 580,-172.32 595,-162.32
3D body: height 75, standoff 0, extent 570,-172.32 580,-162.32
3D body: height 75, standoff 68, extent 545,-192.01 570,-182.01
3D body: height 7, standoff 0, extent 580,-192.01 595,-182.01
3D body: height 75, standoff 0, extent 570,-192.01 580,-182.01
3D body: height 75, standoff 68, extent 545,-211.69 570,-201.69
3D body: height 7, standoff 0, extent 580,-211.69 595,-201.69
3D body: height 75, standoff 0, extent 570,-211.69 580,-201.69
3D body: height 75, standoff 68, extent 545,-231.38 570,-221.38
3D body: height 7, standoff 0, extent 580,-231.38 595,-221.38
3D body: height 75, standoff 0, extent 570,-231.38 580,-221.38
3D body: height 75, standoff 68, extent 545,-251.06 570,-241.06
3D body: height 7, standoff 0, extent 580,-251.06 595,-241.06
3D body: height 75, standoff 0, extent 570,-251.06 580,-241.06
3D body: height 75, standoff 68, extent 545,-270.75 570,-260.75
3D body: height 7, standoff 0, extent 580,-270.75 595,-260.75
3D body: height 75, standoff 0, extent 570,-270.75 580,-260.75
3D body: height 75, standoff 68, extent 545,-290.43 570,-280.43
3D body: height 7, standoff 0, extent 580,-290.43 595,-280.43
3D body: height 75, standoff 0, extent 570,-290.43 580,-280.43
3D body: height 75, standoff 68, extent 545,-310.12 570,-300.12
3D body: height 7, standoff 0, extent 580,-310.12 595,-300.12
3D body: height 75, standoff 0, extent 570,-310.12 580,-300.12
3D body: height 75, standoff 68, extent 545,221.38 570,231.38
3D body: height 7, standoff 0, extent 580,221.38 595,231.38
3D body: height 75, standoff 0, extent 570,221.38 580,231.38
3D body: height 75, standoff 68, extent 545,201.69 570,211.69
3D body: height 7, standoff 0, extent 580,201.69 595,211.69
3D body: height 75, standoff 0, extent 570,201.69 580,211.69
3D body: height 75, standoff 68, extent 545,182.01 570,192.01
3D body: height 7, standoff 0, extent 580,182.01 595,192.01
3D body: height 75, standoff 0, extent 570,182.01 580,192.01
3D body: height 75, standoff 68, extent 545,162.32 570,172.32
3D body: height 7, standoff 0, extent 580,162.32 595,172.32
3D body: height 75, standoff 0, extent 570,162.32 580,172.32
3D body: height 75, standoff 68, extent 545,142.64 570,152.64
3D body: height 7, standoff 0, extent 580,142.64 595,152.64
3D body: height 75, standoff 0, extent 570,142.64 580,152.64
3D body: height 75, standoff 68, extent 545,122.95 570,132.95
3D body: height 7, standoff 0, extent 580,122.95 595,132.95
3D body: height 75, standoff 0, extent 570,122.95 580,132.95
3D body: height 75, standoff 68, extent 545,103.27 570,113.27
3D body: height 7, standoff 0, extent 580,103.27 595,113.27
3D body: height 75, standoff 0, extent 570,103.27 580,113.27
3D body: height 75, standoff 68, extent 545,83.58 570,93.58
3D body: height 7, standoff 0, extent 580,83.58 595,93.58
3D body: height 75, standoff 0, extent 570,83.58 580,93.58
3D body: height 75, standoff 68, extent 545,63.9 570,73.9
3D body: height 7, standoff 0, extent 580,63.9 595,73.9
3D body: height 75, standoff 0, extent 570,63.9 580,73.9
3D body: height 75, standoff 68, extent 545,44.21 570,54.21
3D body: height 7, standoff 0, extent 580,44.21 595,54.21
3D body: height 75, standoff 0, extent 570,44.21 580,54.21
3D body: height 75, standoff 68, extent 545,24.53 570,34.53
3D body: height 7, standoff 0, extent 580,24.53 595,34.53
3D body: height 75, standoff 0, extent 570,24.53 580,34.53
3D body: height 75, standoff 68, extent 545,4.84 570,14.84
3D body: height 7, standoff 0, extent 580,4.84 595,14.84
3D body: height 75, standoff 0, extent 570,4.84 580,14.84
3D body: height 75, standoff 68, extent 545,-14.84 570,-4.84
3D body: height 7, standoff 0, extent 580,-14.84 595,-4.84
3D body: height 75, standoff 0, extent 570,-14.84 580,-4.84
3D body: height 75, standoff 68, extent 545,-34.53 570,-24.53
3D body: height 7, standoff 0, extent 580,-34.53 595,-24.53
3D body: height 75, standoff 0, extent 570,-34.53 580,-24.53
3D body: height 75, standoff 0, extent 570,241.06 580,251.06
3D body: height 7, standoff 0, extent 580,241.06 595,251.06
3D body: height 75, standoff 68, extent 545,241.06 570,251.06
3D body: height 75, standoff 0, extent 570,260.75 580,270.75
3D body: height 7, standoff 0, extent 580,260.75 595,270.75
3D body: height 75, standoff 68, extent 545,260.75 570,270.75
3D body: height 75, standoff 0, extent 570,280.43 580,290.43
3D body: height 7, standoff 0, extent 580,280.43 595,290.43
3D body: height 75, standoff 68, extent 545,280.43 570,290.43
3D body: height 75, standoff 0, extent 570,300.12 580,310.12
3D body: height 7, standoff 0, extent 580,300.12 595,310.12
3D body: height 75, standoff 68, extent 545,300.12 570,310.12
3D body: height 75, standoff 0, extent 570,319.8 580,329.8
3D body: height 7, standoff 0, extent 580,319.8 595,329.8
3D body: height 75, standoff 68, extent 545,319.8 570,329.8
3D body: height 75, standoff 0, extent 570,339.49 580,349.49
3D body: height 7, standoff 0, extent 580,339.49 595,349.49
3D body: height 75, standoff 68, extent 545,339.49 570,349.49
3D body: height 75, standoff 0, extent 570,359.17 580,369.17
3D body: height 7, standoff 0, extent 580,359.17 595,369.17
3D body: height 75, standoff 68, extent 545,359.17 570,369.17
3D body: height 75, standoff 0, extent 570,378.86 580,388.86
3D body: height 7, standoff 0, extent 580,378.86 595,388.86
3D body: height 75, standoff 68, extent 545,378.86 570,388.86
3D body: height 75, standoff 0, extent 570,398.54 580,408.54
3D body: height 7, standoff 0, extent 580,398.54 595,408.54
3D body: height 75, standoff 68, extent 545,398.54 570,408.54
3D body: height 75, standoff 0, extent 570,418.23 580,428.23
3D body: height 7, standoff 0, extent 580,418.23 595,428.23
3D body: height 75, standoff 68, extent 545,418.23 570,428.23
3D body: height 75, standoff 0, extent 570,437.91 580,447.91
3D body: height 7, standoff 0, extent 580,437.91 595,447.91
3D body: height 75, standoff 68, extent 545,437.91 570,447.91
3D body: height 75, standoff 0, extent 570,457.6 580,467.6
3D body: height 7, standoff 0, extent 580,457.6 595,467.6
3D body: height 75, standoff 68, extent 545,457.6 570,467.6
3D body: height 75, standoff 0, extent 570,477.28 580,487.28
3D body: height 7, standoff 0, extent 580,477.28 595,487.28
3D body: height 75, standoff 68, extent 545,477.28 570,487.28
3D body: height 75, standoff 0, extent 570,496.97 580,506.97
3D body: height 7, standoff 0, extent 580,496.97 595,506.97
3D body: height 75, standoff 68, extent 545,496.97 570,506.97